# EAGLE library part MSP430F11X---DW20 (library MSP430F1xxx)
MSP430F110 1KB + 128B Flash Memory 128B RAM MSP430F112 4KB + 256B Flash Memory 256B RAM Package SOIC-20(DW20)
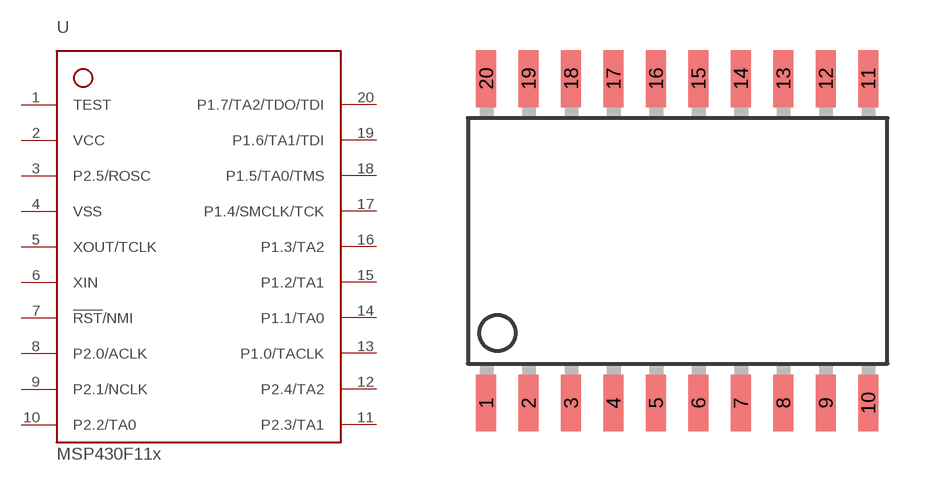
[diagram p0: symbol with the pads of DW20; footprint DW20]

Designator prefix -

## MSP430F11X---DW20  [DW20]
1  TEST  in
2  VCC  pwr
3  P2.5/ROSC
4  VSS  pwr
5  XOUT/TCLK
6  XIN  in
7  !RST!/NMI  in
8  P2.0/ACLK
9  P2.1/NCLK
10  P2.2/TA0
11  P2.3/TA1
12  P2.4/TA2
13  P1.0/TACLK
14  P1.1/TA0
15  P1.2/TA1
16  P1.3/TA2
17  P1.4/SMCLK/TCK
18  P1.5/TA0/TMS
19  P1.6/TA1/TDI
20  P1.7/TA2/TDO/TDI

## Footprint DW20 (pad centres in mm)
*** TI: DW *** JEDEC: R-PDSO-G20 *** 20 PINS ***
smd 0.6 x 1.7: 1 -5.715,-4.85; 2 -4.445,-4.85; 3 -3.175,-4.85; 4 -1.905,-4.85; 5 -0.635,-4.85; 6 0.635,-4.85; 7 1.905,-4.85; 8 3.175,-4.85; 9 4.445,-4.85; 10 5.715,-4.85; 11 5.715,4.85; 12 4.445,4.85; 13 3.175,4.85; 14 1.905,4.85; 15 0.635,4.85; 16 -0.635,4.85; 17 -1.905,4.85; 18 -3.175,4.85; 19 -4.445,4.85; 20 -5.715,4.85